# Altium schematic symbol library 81801_1.SCHLIB: 46 symbols
Pins are listed as number, name and electrical type; pins without a type are passive.

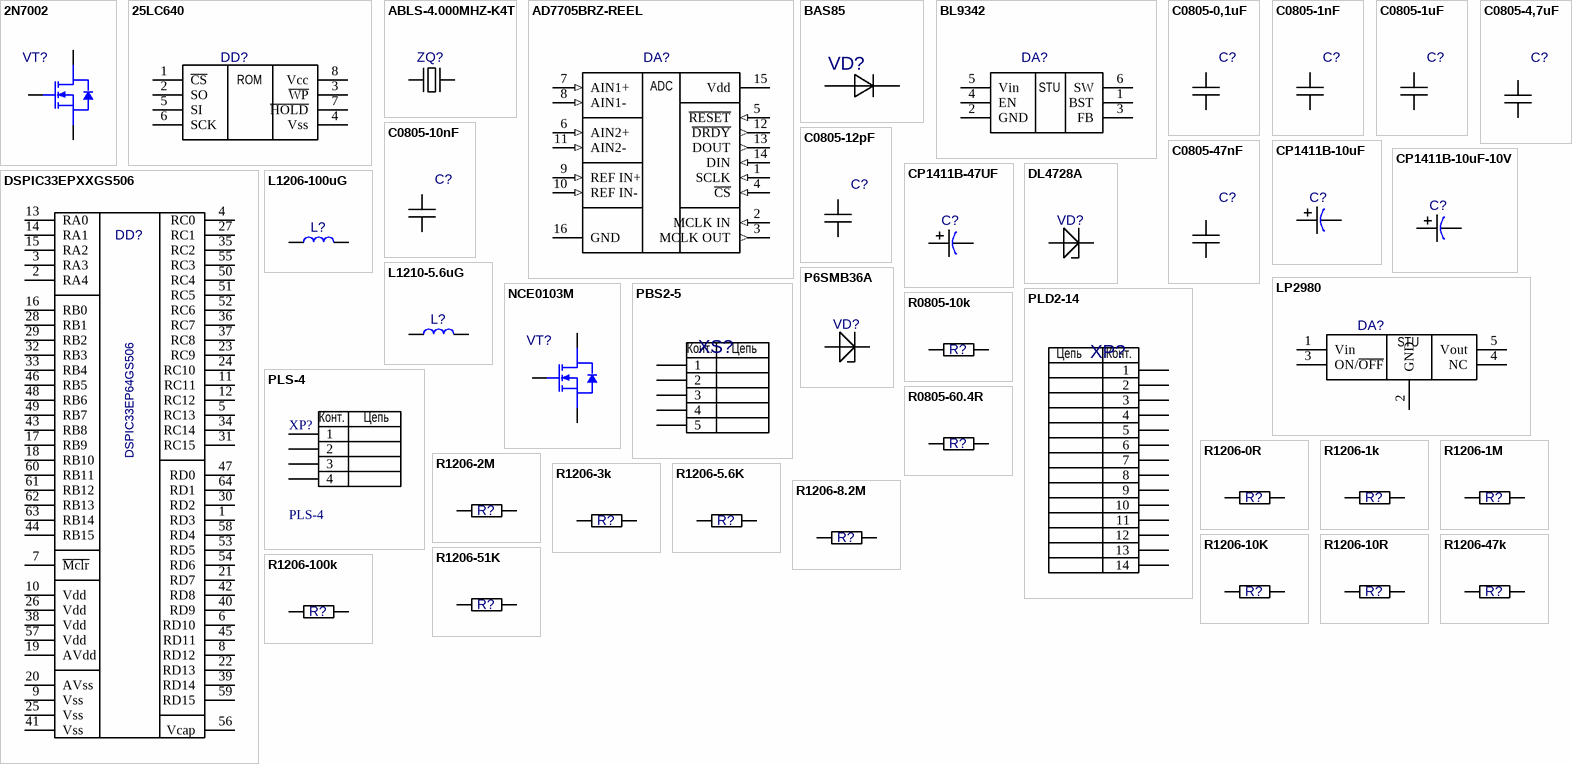
[diagram p0: symbols 2N7002 to R1206-100k]

## 2N7002
designator VT?  (value not drawn)
2N7002, MOSFET-N, 60V, 115mA, SOT-23-3; Added_by: ridel_av@teslatec.ru; Pkg: SOT23-3; Solder_Amount: 3; Created_at: 21/04/2025; Mount: MOUNT; MountType: SMD; Part Number: 2N7002
footprint SOT-23-3
pins: 1, 2, 3, 6

## 25LC640
designator DD?, comment 25LC640-E/SN  (value not drawn)
25LC640-E/SN, EEPROM, 64Kbit, 2MHz, SPI; Added_by: ridel_av@teslatec.ru; Pkg: SOIC-8; Solder_Amount: 8; Created_at: 21/04/2025; Mount: MOUNT; MountType: SMD; Part Number: 25LC640-E/SN
footprint SOIC-8 (Small Outline; 8 Leads; Body Width 3.9 mm; Pitch 1.27 mm)
pins: 1 ~{CS}, 2 SO, 3 ~{WP}, 4 Vss, 5 SI, 6 SCK, 7 ~{HOLD}, 8 Vcc
text: ROM

## ABLS-4.000MHZ-K4T
designator ZQ?  (value not drawn)
KX-K 4MHz HC/49US; Added_by: ridel_av@teslatec.ru; Pkg: HC/49US  (SMD-2); Solder_Amount: 2; Created_at: 21/04/2025; Mount: MOUNT; MountType: SMD; Part Number: ABLS-4.000MHZ-K4T
footprint HC|49US (Crystal, 2-Leads, Body 4.70x11.40mm, Pitch 8.80mm, IPC Medium Density)
pins: 1 OSC1, 2 OSC2

## AD7705BRZ-REEL
designator DA?  (value not drawn)
ADC-AD7705; Added_by: ridel_av@teslatec.ru; Pkg: SOIC-16; Solder_Amount: 16; Created_at: 21/04/2025; Mount: MOUNT; MountType: SMD; Part Number: AD7705BRZ-REEL
footprint SOIC-16
pins: 1 SCLK (in), 2 MCLK IN (in), 3 MCLK OUT (out), 4 ~{CS} (in), 5 ~{RESET} (in), 6 AIN2+ (in), 7 AIN1+ (in), 8 AIN1- (in), 9 REF IN+ (in), 10 REF IN- (in), 11 AIN2- (in), 12 ~{DRDY} (out), 13 DOUT (out), 14 DIN (in), 15 Vdd (power), 16 GND (power)
text: ADC

## BAS85
designator VD?  (value not drawn)
BAS85 30В 0.2А; Added_by: ridel_av@teslatec.ru; Pkg: SOD-80; Solder_Amount: 2; Value: BAS85; Created_at: 21/04/2025; Mount: MOUNT; MountType: SMD; Part Number: BAS85
footprint SOD-80 MiniMELF (Molded Diode, 2-Leads, Body 3.40x1.50mm, IPC Medium Density)
pins: 1 A, 2 K

## BL9342
designator DA?  (value not drawn)
STU-BL9342, 40V, 600mA; Added_by: ridel_av@teslatec.ru; Pkg: SOT23-6; Solder_Amount: 6; Created_at: 21/04/2025; Mount: MOUNT; MountType: SMD; Part Number: BL9342
footprint SOT23-6
pins: 1 BST, 2 GND, 3 FB, 4 EN, 5 Vin, 6 SW
text: STU

## C0805-0,1uF
designator C?, comment 0,1uF  (value not drawn)
C0805 0,1uF; Part Number: SMD CAP CER 0.1uF ±10% 25V X7R 0805; Added_by: ridel_av@teslatec.ru; Pkg: 0805; Solder_Amount: 2; Created_at: 21/04/2025; Mount: MOUNT; MountType: SMD
footprint 0805C
pins: 1, 2

## C0805-1nF
designator C?, comment 1nF  (value not drawn)
C0805 1nF; Part Number: SMD CAP CER 1nF ±10% 50V X7R 0805; Added_by: ridel_av@teslatec.ru; Pkg: 0805; Solder_Amount: 2; Created_at: 21/04/2025; Mount: MOUNT; MountType: SMD
footprint 0805C
pins: 1, 2

## C0805-1uF
designator C?, comment 1uF  (value not drawn)
C0805 1uF; Part Number: SMD CAP CER 1uF ±10% 25V X7R 0805; Added_by: ridel_av@teslatec.ru; Pkg: 0805; Solder_Amount: 2; Created_at: 21/04/2025; Mount: MOUNT; MountType: SMD
footprint 0805C
pins: 1, 2

## C0805-4,7uF
designator C?, comment 4,7uF  (value not drawn)
C0805 4,7uF 50V; Part Number: SMD CAP CER 4.7uF ±10% 50V X7R 0805; Added_by: ridel_av@teslatec.ru; Pkg: 0805; Solder_Amount: 2; Created_at: 21/04/2025; Mount: MOUNT; MountType: SMD
footprint 0805C
pins: 1, 2

## C0805-10nF
designator C?, comment 10nF  (value not drawn)
C0805 10nF; Part Number: SMD CAP CER 10nF ±10% 50V X7R 0805; Added_by: ridel_av@teslatec.ru; Pkg: 0805; Solder_Amount: 2; Created_at: 21/04/2025; Mount: MOUNT; MountType: SMD
footprint 0805C
pins: 1, 2

## C0805-12pF
designator C?, comment 12pF  (value not drawn)
C0805 12pF; Part Number: SMD CAP CER 12pF ±10% 10V X7R 0805; Added_by: ridel_av@teslatec.ru; Pkg: 0805; Solder_Amount: 2; Created_at: 21/04/2025; Mount: MOUNT; MountType: SMD
footprint 0805C
pins: 1, 2

## C0805-47nF
designator C?, comment 47nF  (value not drawn)
C0805 47nF 50V; Part Number: SMD CAP CER 47nF ±10% 25V C0G 0805; Added_by: ridel_av@teslatec.ru; Pkg: 0805; Solder_Amount: 2; Created_at: 21/04/2025; Mount: MOUNT; MountType: SMD
footprint 0805C
pins: 1, 2

## CP1411B-10uF
designator C?  (value not drawn)
CP1411B 10uF 6V3; Part Number: SMD CAP TANTAL 10uF ±10% 6V3 1411B; Added_by: ridel_av@teslatec.ru; Pkg: 1411B; Solder_Amount: 2; Created_at: 21/04/2025; Mount: MOUNT; MountType: SMD
footprint B1411_3528 (Molded Capacitor, 2-Leads, Body 3.50x2.80mm, IPC Medium Density)
pins: 1, 2

## CP1411B-10uF-10V
designator C?, comment 10uF  (value not drawn)
CP1411B 10uF 10V; Part Number: SMD CAP TANTAL 10uF ±10% 10V 1411B; Added_by: ridel_av@teslatec.ru; Pkg: 1411B; Solder_Amount: 2; Created_at: 21/04/2025; Mount: MOUNT; MountType: SMD
footprint B1411_3528 (Molded Capacitor, 2-Leads, Body 3.50x2.80mm, IPC Medium Density)
pins: 1, 2

## CP1411B-47UF
designator C?, comment 47UF  (value not drawn)
CP1411B 47UF 6V3; Part Number: SMD CAP TANTAL 47uF ±10% 6V3 1411B; Added_by: ridel_av@teslatec.ru; Pkg: 1411B; Solder_Amount: 2; Created_at: 21/04/2025; Mount: MOUNT; MountType: SMD
footprint B1411_3528 (Molded Capacitor, 2-Leads, Body 3.50x2.80mm, IPC Medium Density)
pins: 1, 2

## DL4728A
designator VD?  (value not drawn)
DL4728A, 3V3; Added_by: ridel_av@teslatec.ru; Pkg: DO-213AA; Solder_Amount: 2; Created_at: 21/04/2025; Mount: MOUNT; MountType: SMD; Part Number: DL4728A
footprint DO-213AB
pins: 1 A, 2 K

## DSPIC33EPXXGS506
designator DD?, comment DSPIC33EP64GS506
Part Number: DSPIC33EP64GS506-E/PT; Added_by: ridel_av@teslatec.ru; Pkg: TQFP-64; Solder_Amount: 64; Created_at: 21/04/2025; Mount: MOUNT; MountType: SMD
footprint TQFP-64 (TQFP-64 Package , 64-Leades, 10.00 x 10.00 mm Body , 0.5 mm Pitch)
pins: 1 RD3, 2 RA4, 3 RA3, 4 RC0, 5 RC13, 6 RD10, 7 ~{Mclr}, 8 RD12, 9 Vss, 10 Vdd, 11 RC11, 12 RC12, 13 RA0, 14 RA1, 15 RA2, 16 RB0, 17 RB9, 18 RB10, 19 AVdd, 20 AVss, 21 RD7, 22 RD13, 23 RC9, 24 RC10, 25 Vss, 26 Vdd, 27 RC1, 28 RB1, 29 RB2, 30 RD2, 31 RC15, 32 RB3, 33 RB4, 34 RC14, 35 RC2, 36 RC7, 37 RC8, 38 Vdd, 39 RD14, 40 RD9, 41 Vss, 42 RD8, 43 RB8, 44 RB15, 45 RD11, 46 RB5, 47 RD0, 48 RB6, 49 RB7, 50 RC4, 51 RC5, 52 RC6, 53 RD5, 54 RD6, 55 RC3, 56 Vcap, 57 Vdd, 58 RD4, 59 RD15, 60 RB11, 61 RB12, 62 RB13, 63 RB14, 64 RD1

## L1206-100uG
designator L?, comment 100uG  (value not drawn)
LQH31CN101K03L, 100 uG, 1206, 10%; Added_by: ridel_av@teslatec.ru; Pkg: 1206; Solder_Amount: 2; Created_at: 21/04/2025; Mount: MOUNT; MountType: SMD; Part Number: LQH31CN101K03L
footprint L1206
pins: 1, 2

## L1210-5.6uG
designator L?, comment 5.6uG  (value not drawn)
LQH32MN5R6K23L, 5.6uG, 1210, 10%; Added_by: ridel_av@teslatec.ru; Pkg: 1210; Solder_Amount: 2; Created_at: 21/04/2025; Mount: MOUNT; MountType: SMD; Part Number: LQH32MN5R6K23L
footprint L1210
pins: 1, 2

## LP2980
designator DA?  (value not drawn)
STU-LP2980, 3.3V, 50mA; Part Number: LP2980IM5X-3.3/NOPB; Added_by: ridel_av@teslatec.ru; Pkg: SOT23-5; Solder_Amount: 5; Created_at: 21/04/2025; Mount: MOUNT; MountType: SMD
footprint SOT23-5
pins: 1 Vin, 2 GND, 3 ON/~{OFF}, 4 hidden, 4 NC, 5 Vout
text: STU

## NCE0103M
designator VT?  (value not drawn)
NCE0103M, MOSFET-N, 100V, 3A, SOT-89-3; Added_by: ridel_av@teslatec.ru; Solder_Amount: 3; Created_at: 21/04/2025; Mount: MOUNT; MountType: SMD; Part Number: NCE0103M; Pkg: SOT-89-3
footprint SOT-89-3
pins: 1, 2, 3, 6

## P6SMB36A
designator VD?  (value not drawn)
P6SMB36A, 49.9V; Added_by: ridel_av@teslatec.ru; Pkg: SMB (DO-214AA); Solder_Amount: 2; Created_at: 21/04/2025; Mount: MOUNT; MountType: SMD; Part Number: P6SMB36A
footprint SMB(DO-214AA )
pins: 1 A, 2 K

## PBS2-5
designator XS?  (value not drawn)
Part Number: C6801-05ASGL00R; Added_by: ridel_av@teslatec.ru; Solder_Amount: 2; Created_at: 21/04/2025; Mount: MOUNT; MountType: PTH; Pkg: PBS2-5
footprint PBS-5
pins: 1, 2, 3, 4, 5
text: Конт.; Цепь

## PLD2-14
designator XP?  (value not drawn)
Part Number: DS1025-05-2X7P8BV1-B; Added_by: ridel_av@teslatec.ru; Solder_Amount: 14; Created_at: 21/04/2025; Mount: MOUNT; MountType: SMD; Pkg: PLD2-14
footprint PLD-14- 2.0mm (Connector)
pins: 1, 2, 3, 4, 5, 6, 7, 8, 9, 10, 11, 12, 13, 14
text: Цепь; Конт.

## PLS-4
designator XP?
HEADER 2.54mm; Mating Part: BLS-4; Added_by: irdolgopolowa@yandex.ru; Solder_Amount: 4; Mating Terminals: BL-T (DS-1071); Cable/Wire: МГТФ 0,35 кв.мм ГОСТ; Created_at: 29/10/24; Mount: MOUNT; MountType: THM; Part Number: PLS-4; Pkg: PLS-4
footprint PLS-4
pins: 1, 2, 3, 4
text: Конт.; Цепь

## R0805-10k
designator R?, comment 10k  (value not drawn)
R0805 SMD 10k OHM 1% ±100ppm/°C; Part Number: SMD RES 10k OHM 1% ±100ppm/°C 0805; Added_by: ridel_av@teslatec.ru; Pkg: 0805; Solder_Amount: 2; Created_at: 21/04/2025; Mount: MOUNT; MountType: SMD
footprint R0805
pins: 1, 2

## R0805-60.4R
designator R?, comment 60.4R  (value not drawn)
R0805 SMD 60.4R OHM 1% ±100ppm/°C; Part Number: SMD RES 60.4 OHM 1% ±100ppm/°C 0805; Added_by: ridel_av@teslatec.ru; Pkg: 0805; Solder_Amount: 2; Created_at: 21/04/2025; Mount: MOUNT; MountType: SMD
footprint R0805
pins: 1, 2

## R1206-0R
designator R?, comment 0R  (value not drawn)
R1206-0R; Part Number: SMD RES 0 OHM 1% ±100ppm/°C 1206; Added_by: ridel_av@teslatec.ru; Pkg: 1206; Solder_Amount: 2; Created_at: 21/04/2025; Mount: MOUNT; MountType: SMD
footprint R1206
pins: 1, 2

## R1206-1k
designator R?, comment 1k  (value not drawn)
R1206 SMD 1k OHM 1% ±100ppm/°C; Part Number: SMD RES 1k OHM 1% ±100ppm/°C 1206; Added_by: ridel_av@teslatec.ru; Pkg: 1206; Solder_Amount: 2; Created_at: 21/04/2025; Mount: MOUNT; MountType: SMD
footprint R1206
pins: 1, 2

## R1206-1M
designator R?, comment 1M  (value not drawn)
R1206 1M OHM 1% ±100ppm/°C; Part Number: SMD RES 1M OHM 1% ±100ppm/°C 1206; Added_by: ridel_av@teslatec.ru; Pkg: 1206; Solder_Amount: 2; Value: 1M; Created_at: 21/04/2025; Mount: MOUNT; MountType: SMD
footprint R1206
pins: 1, 2

## R1206-2M
designator R?, comment 2M  (value not drawn)
R1206 2M OHM 1% ±100ppm/°C; Part Number: SMD RES 2M OHM 1% ±100ppm/°C 1206; Value: 1M; Added_by: ridel_av@teslatec.ru; Pkg: 1206; Solder_Amount: 2; Created_at: 21/04/2025; Mount: MOUNT; MountType: SMD
footprint R1206
pins: 1, 2

## R1206-3k
designator R?, comment 3k  (value not drawn)
R1206 SMD 3k OHM 1% ±100ppm/°C; Part Number: SMD RES 1k OHM 1% ±100ppm/°C 1206; Added_by: ridel_av@teslatec.ru; Pkg: 1206; Solder_Amount: 2; Created_at: 21/04/2025; Mount: MOUNT; MountType: SMD
footprint R1206
pins: 1, 2

## R1206-5.6K
designator R?, comment 5.6K  (value not drawn)
R1206 5.6k OHM 1% ±100ppm/°C; Part Number: SMD RES 5.6k OHM 1% ±100ppm/°C 1206; Added_by: ridel_av@teslatec.ru; Pkg: 1206; Solder_Amount: 2; Created_at: 21/04/2025; Mount: MOUNT; MountType: SMD
footprint R1206
pins: 1, 2

## R1206-8.2M
designator R?, comment 8.2M  (value not drawn)
R1206 8.2M OHM 1% ±100ppm/°C; Part Number: SMD RES 8.2M OHM 1% ±100ppm/°C 1206; Value: 8M2; Added_by: ridel_av@teslatec.ru; Pkg: 1206; Solder_Amount: 2; Created_at: 21/04/2025; Mount: MOUNT; MountType: SMD
footprint R1206
pins: 1, 2

## R1206-10K
designator R?, comment 10K  (value not drawn)
R1206 10k OHM 1% ±100ppm/°C; Part Number: SMD RES 10k OHM 1% ±100ppm/°C 1206; Added_by: ridel_av@teslatec.ru; Pkg: 1206; Solder_Amount: 2; Created_at: 21/04/2025; Mount: MOUNT; MountType: SMD
footprint R1206
pins: 1, 2

## R1206-10R
designator R?, comment 10R  (value not drawn)
R1206 10 OHM 1% ±100ppm/°C; Part Number: SMD RES 10 OHM 1% ±100ppm/°C 1206; Added_by: ridel_av@teslatec.ru; Pkg: 1206; Solder_Amount: 2; Created_at: 21/04/2025; Mount: MOUNT; MountType: SMD
footprint R1206
pins: 1, 2

## R1206-47k
designator R?, comment 47k  (value not drawn)
R1206 47k OHM 1% ±100ppm/°C; Part Number: SMD RES 47k OHM 1% ±100ppm/°C 1206; Added_by: ridel_av@teslatec.ru; Pkg: 1206; Solder_Amount: 2; Created_at: 21/04/2025; Mount: MOUNT; MountType: SMD
footprint R1206
pins: 1, 2

## R1206-51K
designator R?, comment 51K  (value not drawn)
R1206 51K OHM 1% ±100ppm/°C; Part Number: SMD RES 51K OHM 1% ±100ppm/°C 1206; Added_by: ridel_av@teslatec.ru; Pkg: 1206; Solder_Amount: 2; Created_at: 21/04/2025; Mount: MOUNT; MountType: SMD
footprint R1206
pins: 1, 2

## R1206-100k
designator R?, comment 100k  (value not drawn)
R1206 100k OHM 1% ±100ppm/°C; Part Number: SMD RES 100k OHM 1% ±100ppm/°C 1206; Added_by: ridel_av@teslatec.ru; Pkg: 1206; Solder_Amount: 2; Created_at: 21/04/2025; Mount: MOUNT; MountType: SMD
footprint R1206
pins: 1, 2

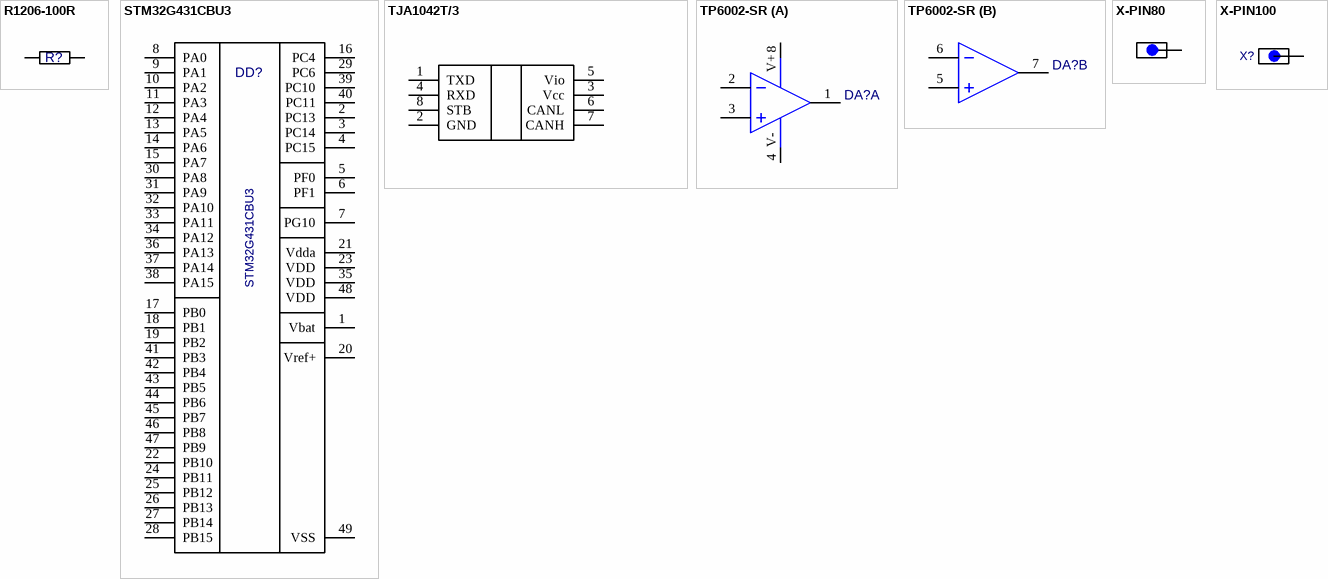
[diagram p1: symbols R1206-100R to X-PIN100]

## R1206-100R
designator R?, comment 100R  (value not drawn)
R1206 100 OHM 1% ±100ppm/°C; Part Number: SMD RES 100 OHM 1% ±100ppm/°C 1206; Added_by: ridel_av@teslatec.ru; Pkg: 1206; Solder_Amount: 2; Created_at: 21/04/2025; Mount: MOUNT; MountType: SMD
footprint R1206
pins: 1, 2

## STM32G431CBU3
designator DD?
Arm Cortex-M4 32b MCU+FPU, 170 MHz / 213 DMIPS, 128 KB Flash; Added_by: ridel_av@teslatec.ru; Pkg: UFQFPN-48; Solder_Amount: 49; Created_at: 21/04/2025; Mount: MOUNT; MountType: SMD; Part Number: STM32G431CBU3
footprint TQFP-64 (TQFP-64 Package , 64-Leades, 10.00 x 10.00 mm Body , 0.5 mm Pitch)
pins: 1 Vbat, 2 PC13, 3 PC14, 4 PC15, 5 PF0, 6 PF1, 7 PG10, 8 PA0, 9 PA1, 10 PA2, 11 PA3, 12 PA4, 13 PA5, 14 PA6, 15 PA7, 16 PC4, 17 PB0, 18 PB1, 19 PB2, 20 Vref+, 21 Vdda, 22 PB10, 23 VDD, 24 PB11, 25 PB12, 26 PB13, 27 PB14, 28 PB15, 29 PC6, 30 PA8, 31 PA9, 32 PA10, 33 PA11, 34 PA12, 35 VDD, 36 PA13, 37 PA14, 38 PA15, 39 PC10, 40 PC11, 41 PB3, 42 PB4, 43 PB5, 44 PB6, 45 PB7, 46 PB8, 47 PB9, 48 VDD, 49 VSS

## TJA1042T/3
designator DD?
High-speed CAN transceiver with Standby mode; Added_by: dolgopolova_ia@teslatec.ru; Pkg: SOIC-8; Solder_Amount: 8; Created_at: 03/09/2025; Mount: MOUNT; MountType: SMD; Part Number: TJA1042T/3
footprint SOIC-8 (Small Outline; 8 Leads; Body Width 3.9 mm; Pitch 1.27 mm)
pins: 1 TXD, 2 GND, 3 Vcc, 4 RXD, 5 Vio, 6 CANL, 7 CANH, 8 STB

## TP6002-SR
designator DA?  (value not drawn)
100 mA Output Single-Supply Amplifier; Added_by: ridel_av@teslatec.ru; Pkg: SOIC-8; Solder_Amount: 8; Created_at: 21/04/2025; Mount: MOUNT; MountType: SMD; Part Number: TP6002-SR
footprint SOIC-8 (Small Outline; 8 Leads; Body Width 3.9 mm; Pitch 1.27 mm)
part A pins: 1, 2, 3, 4, 8
part B pins: 5, 6, 7
part A text: V+; V-

## X-PIN80
designator X?  (value not drawn)
Added_by: ridel_av@teslatec.ru; Solder_Amount: 2; Created_at: 21/04/2025; Mount: MOUNT; MountType: SMD
footprint Xpin80
pins: 1 Contact0

## X-PIN100
designator X?  (value not drawn)
Added_by: ridel_av@teslatec.ru; Solder_Amount: 2; Created_at: 21/04/2025; Mount: MOUNT; MountType: SMD
footprint Xpin100
pins: 1